# Altium footprint library SOT23-6P95_280X90L45X42N.PcbLib: 1 footprints
Each footprint in its own frame and in the unit in brackets; x right, y up, seen from the top. Pads: shape width x height; smd on the part's side, far side on the other; paste and mask are expansions set on the pad; w line width, h text height; cw(c..) or ccw(c..) is an arc to the next point about the centre after c.
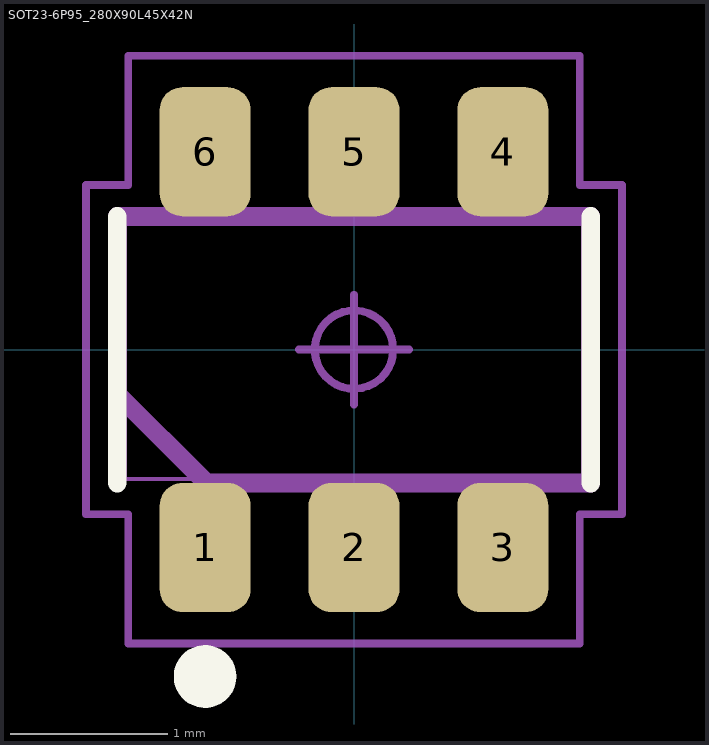
[diagram p0: the footprint, top view; thin cyan lines are the x and y axes]

## SOT23-6P95_280X90L45X42N [mm] "Small Outline Transistor, SOT-23 Type, 0.95 mm pitch; 6 pin, 2.92 mm L X 1.65 mm W X 0.90 mm H body"
height 0.9
pads (6):
  rrect50% 0.58x0.825 smd mask+0.05: 1(-0.95,-1.262) 2(0,-1.262) 3(0.95,-1.262) 4(0.95,1.262) 5(0,1.262) 6(-0.95,1.262)
Top Overlay:
  circle w0.2: c-0.95,-2.085 r0.1
  lines w0.12: -1.51,-0.85 -1.51,0.85 ; 1.51,-0.85 1.51,0.85
Mechanical 11:
  lines w0.12: -1.51,-0.283 -1.51,0.85 1.51,0.85 1.51,-0.85 -0.943,-0.85 -1.51,-0.283
Mechanical 12:
  lines w0.025: -1.46,-0.825 1.46,-0.825 1.46,0.825 -1.46,0.825 -1.46,-0.825 ; -1.162,-1.4 -1.162,-0.95 -0.737,-0.95 -0.737,-1.4 -1.162,-1.4 ; -1.162,0.95 -1.162,1.4 -0.737,1.4 -0.737,0.95 -1.162,0.95 ; -0.212,-1.4 -0.212,-0.95 0.212,-0.95 0.212,-1.4 -0.212,-1.4 ; -0.212,0.95 -0.212,1.4 0.212,1.4 0.212,0.95 -0.212,0.95 ; 0.737,-1.4 0.737,-0.95 1.162,-0.95 1.162,-1.4 0.737,-1.4 ; 0.737,0.95 0.737,1.4 1.162,1.4 1.162,0.95 0.737,0.95
Mechanical 15:
  circle w0.05: c0,0 r0.25
  lines w0.05: -0.35,0 0.35,0 ; 0,-0.35 0,0.35 ; -1.71,-1.05 -1.44,-1.05 -1.44,-1.874 1.44,-1.874 1.44,-1.05 1.71,-1.05 1.71,1.05 1.44,1.05 1.44,1.874 -1.44,1.874 -1.44,1.05 -1.71,1.05 -1.71,-1.05
Mechanical 16:
  text ".Designator" at 0,0 h1.2
3D body "SOT23-6P95_280X90L45X42.STEP": height 0.9, standoff 0, extent -1.46,-1.4 1.46,1.4